# Altium integrated library FPGA PB01 Port-Plugin.IntLib: 6 symbols
Pins are listed as number, name and electrical type; pins without a type are passive.

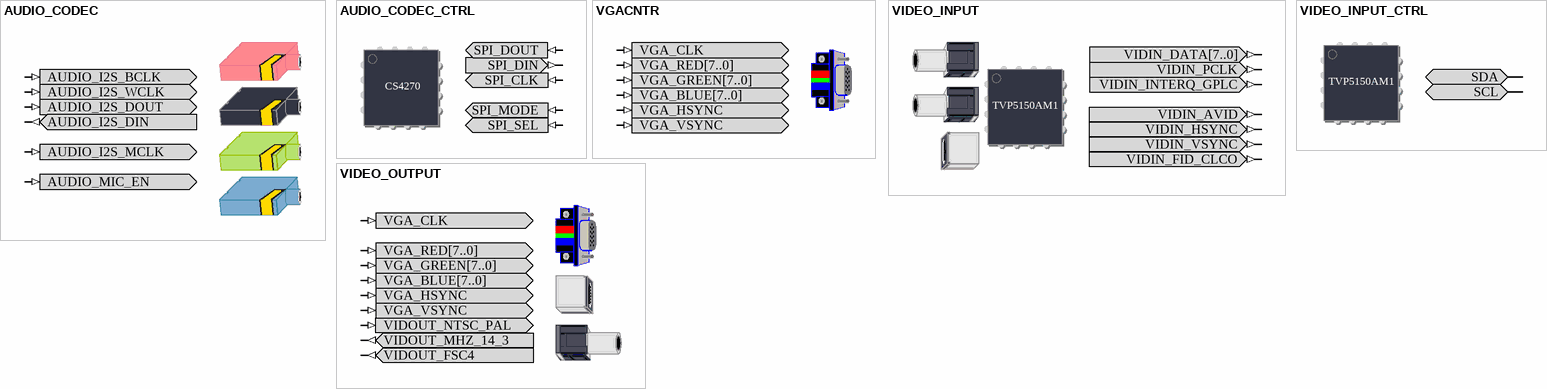
[diagram p0: symbols AUDIO_CODEC to VIDEO_OUTPUT]

## AUDIO_CODEC
designator ?  (value not drawn)
Audio Codec; PortComponent: True; IncludeInDSF: AUDIO_CS4270; Published: 22-Jan-2007; Publisher: Altium Limited; HelpURL: https://wiki.altium.com/display/ADOH/PB01+Resources+-+Audio
pins: AUDIO_I2S_BCLK (in), AUDIO_I2S_DIN (out), AUDIO_I2S_DOUT (in), AUDIO_I2S_MCLK (in), AUDIO_I2S_WCLK (in), AUDIO_MIC_EN (in)

## AUDIO_CODEC_CTRL
designator ?
Audio Codec Control; PortComponent: True; Published: 22-Jan-2007; Publisher: Altium Limited; HelpURL: https://wiki.altium.com/display/ADOH/PB01+Resources+-+Audio
pins: SPI_CLK (in), SPI_DIN (out), SPI_DOUT (in), SPI_MODE (in), SPI_SEL (in)
text: CS4270

## VGACNTR
designator ?
VGA Dsub-15-Female-HD; PortComponent: True; Published: 14-May-2007; Publisher: Altium Limited; HelpURL: https://wiki.altium.com/display/ADOH/PB01+Resources+-+Video+Output
pins: VGA_BLUE[7..0] (in), VGA_CLK (in), VGA_GREEN[7..0] (in), VGA_HSYNC (in), VGA_RED[7..0] (in), VGA_VSYNC (in)

## VIDEO_INPUT
designator ?
Video Inputs; PortComponent: True; Published: 22-Jan-2007; Publisher: Altium Limited; HelpURL: https://wiki.altium.com/display/ADOH/PB01+Resources+-+Video+Input+Capture
pins: VIDIN_AVID (out), VIDIN_DATA[7..0] (out), VIDIN_FID_CLCO (out), VIDIN_HSYNC (out), VIDIN_INTERQ_GPLC (out), VIDIN_PCLK (out), VIDIN_VSYNC (out)
text: TVP5150AM1

## VIDEO_INPUT_CTRL
designator ?
Video Input Control; PortComponent: True; Published: 22-Jan-2007; Publisher: Altium Limited; HelpURL: https://wiki.altium.com/display/ADOH/PB01+Resources+-+Video+Input+Capture
pins: SCL (io), SDA (io)
text: TVP5150AM1

## VIDEO_OUTPUT
designator ?
Video Outputs; PortComponent: True; Published: 22-Jan-2007; Publisher: Altium Limited; HelpURL: https://wiki.altium.com/display/ADOH/PB01+Resources+-+Video+Output
pins: VGA_BLUE[7..0] (in), VGA_CLK (in), VGA_GREEN[7..0] (in), VGA_HSYNC (in), VGA_RED[7..0] (in), VGA_VSYNC (in), VIDOUT_FSC4 (out), VIDOUT_MHZ_14_3 (out), VIDOUT_NTSC_PAL (in)